# EAGLE library part TPS3808 (library TPS3808 - Supervisory Circuit)
Low Quiescent Current, Programmable-Delay Supervisory Circuit
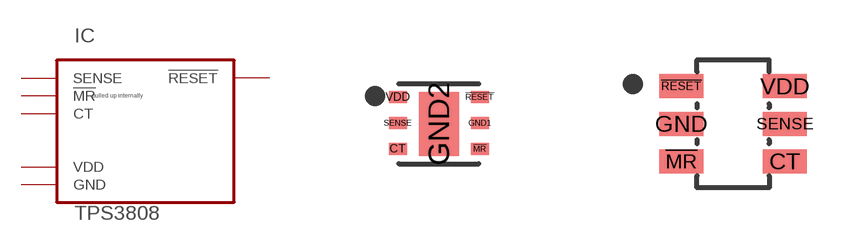
[diagram p0: symbol with the pads of WSON-6; footprints WSON-6, SOT23-6]

Designator prefix IC

## TPS3808WSON6  [WSON-6]
!MR!  !MR!  in
!RESET!  !RESET!  out
CT  CT  in
GND1  GND  pwr
GND2  GND  pwr
SENSE  SENSE  in
VDD  VDD  pwr

## TPS3808SOT23-6  [SOT23-6]
!MR!  !MR!  in
!RESET!  !RESET!  out
CT  CT  in
GND  GND  pwr
SENSE  SENSE  in
VDD  VDD  pwr

## Footprint WSON-6 (pad centres in mm)
smd 0.45 x 0.3: !MR! 1.025,-0.625; !RESET! 1.025,0.675; CT -1.025,-0.625; GND1 1.025,0.025; SENSE -1.025,0.025; VDD -1.025,0.675
smd 1 x 1.6: GND2 0,0

## Footprint SOT23-6 (pad centres in mm)
smd 1.1 x 0.6: !MR! -1.295,-0.94; !RESET! -1.295,0.94; CT 1.295,-0.94; GND -1.295,0; SENSE 1.295,0; VDD 1.295,0.94